# EAGLE library part MCP6V27 (library Semiconductors > Integrated Circuits - ICs > Amplifier ICs > Operational Amplifiers - Op Amps)
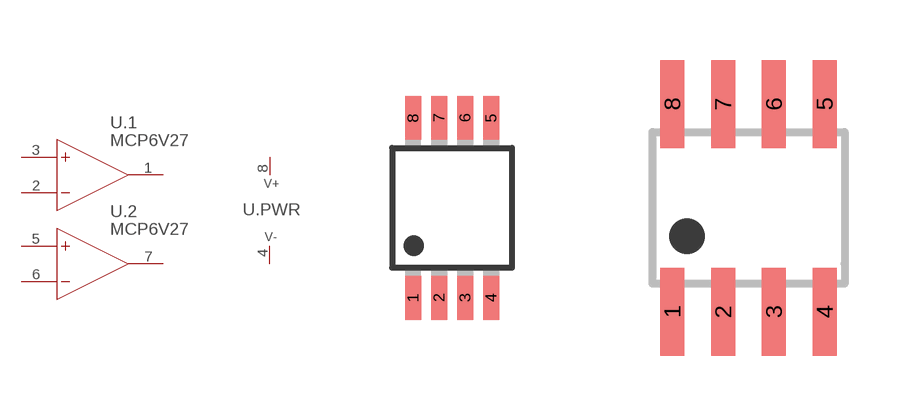
[diagram p1: symbol with the pads of MSOP-8; footprints MSOP-8, SOIC8]

Designator prefix U; gates .1=OP_AMP .2=OP_AMP .PWR=OP_AMP_PWR

## MCP6V27-E/MS  [MSOP-8]
1  .1:OUT  out
2  .1:-IN  in
3  .1:+IN  in
4  .PWR:V-  pwr
5  .2:+IN  in
6  .2:-IN  in
7  .2:OUT  out
8  .PWR:V+  pwr

## MCP6V27-E/SN  [SOIC8]
Pads as for MSOP-8

## Footprint MSOP-8 (pad centres in mm)
8M, 8-Lead, 0.118" Wide, Miniature Small Outline Package MSOP 8M-Package doc1097.pdf
smd 0.4 x 1.1: 1 -0.975,-2.25; 2 -0.325,-2.25; 3 0.325,-2.25; 4 0.975,-2.25; 5 0.975,2.25; 6 0.325,2.25; 7 -0.325,2.25; 8 -0.975,2.25

## Footprint SOIC8 (pad centres in mm)
Small Outline IC
smd 0.6 x 2.2: 1 -1.905,-2.6; 2 -0.635,-2.6; 3 0.635,-2.6; 4 1.905,-2.6; 5 1.905,2.6; 6 0.635,2.6; 7 -0.635,2.6; 8 -1.905,2.6